# Altium integrated library FPGA Memories.IntLib: 600 symbols (part 2 of 6)
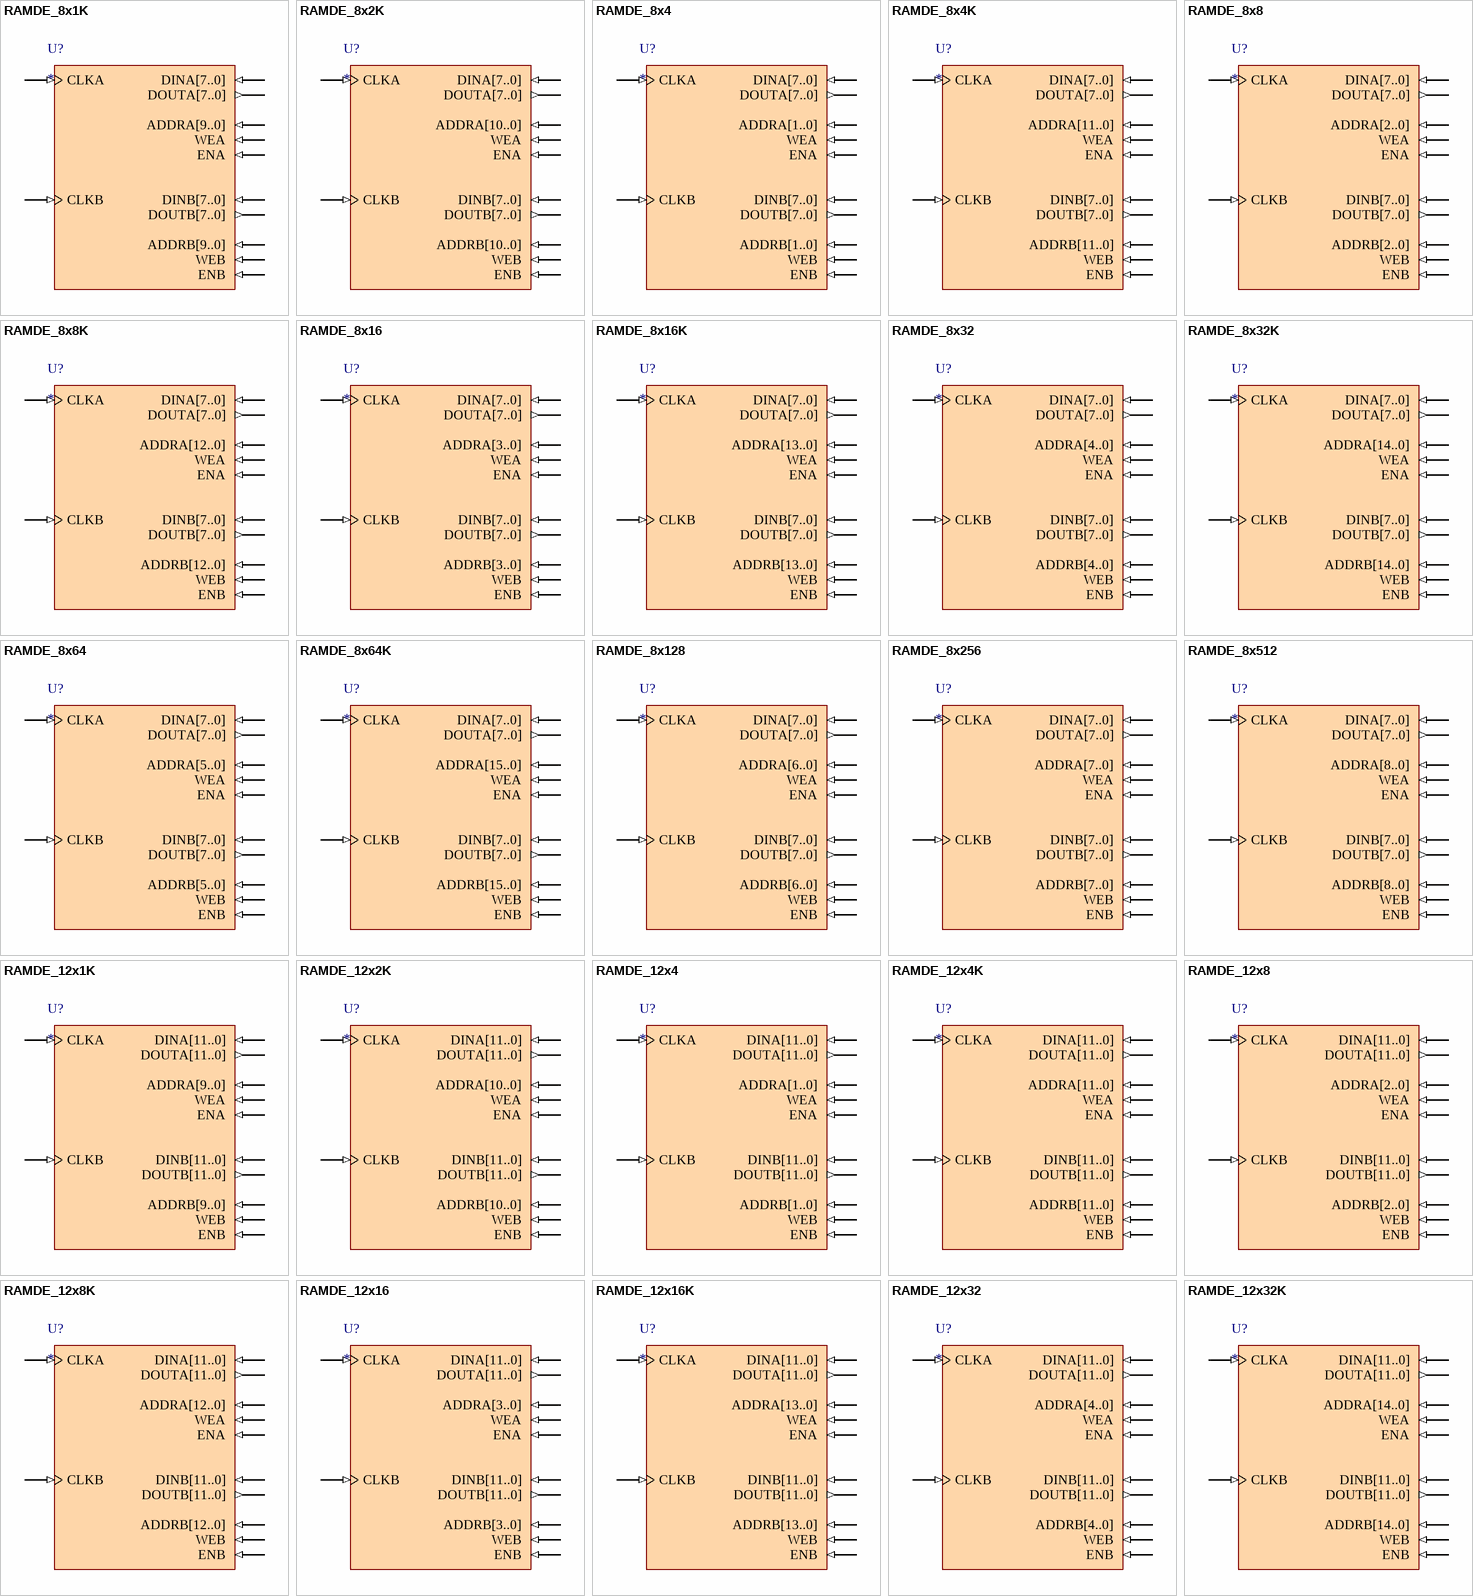
[diagram p21: symbols RAMDE_8x1K to RAMDE_12x32K]

## RAMDE_8x32
designator U?
Dual Port RAM, Enable; Memory_DepthA: 32; Memory_Type: RAM_DualPortBlock; Memory_WidthA: 8; Memory_ClockEdge: Rising; Nexus_Core: Memory_Program; Memory_EnablePin: True; Memory_ByteWrites: False; Published: 11/10/2004; Publisher: Altium Hobart Technology Center; Memory_DepthB: 32; Memory_WidthB: 8
pins: ADDRA[4..0] (in), ADDRB[4..0] (in), CLKA (in), CLKB (in), DINA[7..0] (in), DINB[7..0] (in), DOUTA[7..0] (out), DOUTB[7..0] (out), ENA (in), ENB (in), WEA (in), WEB (in)

## RAMDE_8x32K
designator U?
Dual Port RAM, Enable; Memory_DepthA: 32768; Memory_Type: RAM_DualPortBlock; Memory_WidthA: 8; Memory_ClockEdge: Rising; Nexus_Core: Memory_Program; Memory_EnablePin: True; Memory_ByteWrites: False; Published: 11/10/2004; Publisher: Altium Hobart Technology Center; Memory_DepthB: 32768; Memory_WidthB: 8
pins: ADDRA[14..0] (in), ADDRB[14..0] (in), CLKA (in), CLKB (in), DINA[7..0] (in), DINB[7..0] (in), DOUTA[7..0] (out), DOUTB[7..0] (out), ENA (in), ENB (in), WEA (in), WEB (in)

## RAMDE_8x64
designator U?
Dual Port RAM, Enable; Memory_DepthA: 64; Memory_Type: RAM_DualPortBlock; Memory_WidthA: 8; Memory_ClockEdge: Rising; Nexus_Core: Memory_Program; Memory_EnablePin: True; Memory_ByteWrites: False; Published: 11/10/2004; Publisher: Altium Hobart Technology Center; Memory_DepthB: 64; Memory_WidthB: 8
pins: ADDRA[5..0] (in), ADDRB[5..0] (in), CLKA (in), CLKB (in), DINA[7..0] (in), DINB[7..0] (in), DOUTA[7..0] (out), DOUTB[7..0] (out), ENA (in), ENB (in), WEA (in), WEB (in)

## RAMDE_8x64K
designator U?
Dual Port RAM, Enable; Memory_DepthA: 65536; Memory_Type: RAM_DualPortBlock; Memory_WidthA: 8; Memory_ClockEdge: Rising; Nexus_Core: Memory_Program; Memory_EnablePin: True; Memory_ByteWrites: False; Published: 11/10/2004; Publisher: Altium Hobart Technology Center; Memory_DepthB: 65536; Memory_WidthB: 8
pins: ADDRA[15..0] (in), ADDRB[15..0] (in), CLKA (in), CLKB (in), DINA[7..0] (in), DINB[7..0] (in), DOUTA[7..0] (out), DOUTB[7..0] (out), ENA (in), ENB (in), WEA (in), WEB (in)

## RAMDE_8x128
designator U?
Dual Port RAM, Enable; Memory_DepthA: 128; Memory_Type: RAM_DualPortBlock; Memory_WidthA: 8; Memory_ClockEdge: Rising; Nexus_Core: Memory_Program; Memory_EnablePin: True; Memory_ByteWrites: False; Published: 11/10/2004; Publisher: Altium Hobart Technology Center; Memory_DepthB: 128; Memory_WidthB: 8
pins: ADDRA[6..0] (in), ADDRB[6..0] (in), CLKA (in), CLKB (in), DINA[7..0] (in), DINB[7..0] (in), DOUTA[7..0] (out), DOUTB[7..0] (out), ENA (in), ENB (in), WEA (in), WEB (in)

## RAMDE_8x256
designator U?
Dual Port RAM, Enable; Memory_DepthA: 256; Memory_Type: RAM_DualPortBlock; Memory_WidthA: 8; Memory_ClockEdge: Rising; Nexus_Core: Memory_Program; Memory_EnablePin: True; Memory_ByteWrites: False; Published: 11/10/2004; Publisher: Altium Hobart Technology Center; Memory_DepthB: 256; Memory_WidthB: 8
pins: ADDRA[7..0] (in), ADDRB[7..0] (in), CLKA (in), CLKB (in), DINA[7..0] (in), DINB[7..0] (in), DOUTA[7..0] (out), DOUTB[7..0] (out), ENA (in), ENB (in), WEA (in), WEB (in)

## RAMDE_8x512
designator U?
Dual Port RAM, Enable; Memory_DepthA: 512; Memory_Type: RAM_DualPortBlock; Memory_WidthA: 8; Memory_ClockEdge: Rising; Nexus_Core: Memory_Program; Memory_EnablePin: True; Memory_ByteWrites: False; Published: 11/10/2004; Publisher: Altium Hobart Technology Center; Memory_DepthB: 512; Memory_WidthB: 8
pins: ADDRA[8..0] (in), ADDRB[8..0] (in), CLKA (in), CLKB (in), DINA[7..0] (in), DINB[7..0] (in), DOUTA[7..0] (out), DOUTB[7..0] (out), ENA (in), ENB (in), WEA (in), WEB (in)

## RAMDE_12x1K
designator U?
Dual Port RAM, Enable; Memory_DepthA: 1024; Memory_Type: RAM_DualPortBlock; Memory_WidthA: 12; Memory_ClockEdge: Rising; Nexus_Core: Memory_Program; Memory_EnablePin: True; Memory_ByteWrites: False; Published: 11/10/2004; Publisher: Altium Hobart Technology Center; Memory_DepthB: 1024; Memory_WidthB: 12
pins: ADDRA[9..0] (in), ADDRB[9..0] (in), CLKA (in), CLKB (in), DINA[11..0] (in), DINB[11..0] (in), DOUTA[11..0] (out), DOUTB[11..0] (out), ENA (in), ENB (in), WEA (in), WEB (in)

## RAMDE_12x2K
designator U?
Dual Port RAM, Enable; Memory_DepthA: 2048; Memory_Type: RAM_DualPortBlock; Memory_WidthA: 12; Memory_ClockEdge: Rising; Nexus_Core: Memory_Program; Memory_EnablePin: True; Memory_ByteWrites: False; Published: 11/10/2004; Publisher: Altium Hobart Technology Center; Memory_DepthB: 2048; Memory_WidthB: 12
pins: ADDRA[10..0] (in), ADDRB[10..0] (in), CLKA (in), CLKB (in), DINA[11..0] (in), DINB[11..0] (in), DOUTA[11..0] (out), DOUTB[11..0] (out), ENA (in), ENB (in), WEA (in), WEB (in)

## RAMDE_12x4
designator U?
Dual Port RAM, Enable; Memory_DepthA: 4; Memory_Type: RAM_DualPortBlock; Memory_WidthA: 12; Memory_ClockEdge: Rising; Nexus_Core: Memory_Program; Memory_EnablePin: True; Memory_ByteWrites: False; Published: 11/10/2004; Publisher: Altium Hobart Technology Center; Memory_DepthB: 4; Memory_WidthB: 12
pins: ADDRA[1..0] (in), ADDRB[1..0] (in), CLKA (in), CLKB (in), DINA[11..0] (in), DINB[11..0] (in), DOUTA[11..0] (out), DOUTB[11..0] (out), ENA (in), ENB (in), WEA (in), WEB (in)

## RAMDE_12x4K
designator U?
Dual Port RAM, Enable; Memory_DepthA: 4096; Memory_Type: RAM_DualPortBlock; Memory_WidthA: 12; Memory_ClockEdge: Rising; Nexus_Core: Memory_Program; Memory_EnablePin: True; Memory_ByteWrites: False; Published: 11/10/2004; Publisher: Altium Hobart Technology Center; Memory_DepthB: 4096; Memory_WidthB: 12
pins: ADDRA[11..0] (in), ADDRB[11..0] (in), CLKA (in), CLKB (in), DINA[11..0] (in), DINB[11..0] (in), DOUTA[11..0] (out), DOUTB[11..0] (out), ENA (in), ENB (in), WEA (in), WEB (in)

## RAMDE_12x8
designator U?
Dual Port RAM, Enable; Memory_DepthA: 8; Memory_Type: RAM_DualPortBlock; Memory_WidthA: 12; Memory_ClockEdge: Rising; Nexus_Core: Memory_Program; Memory_EnablePin: True; Memory_ByteWrites: False; Published: 11/10/2004; Publisher: Altium Hobart Technology Center; Memory_DepthB: 8; Memory_WidthB: 12
pins: ADDRA[2..0] (in), ADDRB[2..0] (in), CLKA (in), CLKB (in), DINA[11..0] (in), DINB[11..0] (in), DOUTA[11..0] (out), DOUTB[11..0] (out), ENA (in), ENB (in), WEA (in), WEB (in)

## RAMDE_12x8K
designator U?
Dual Port RAM, Enable; Memory_DepthA: 8192; Memory_Type: RAM_DualPortBlock; Memory_WidthA: 12; Memory_ClockEdge: Rising; Nexus_Core: Memory_Program; Memory_EnablePin: True; Memory_ByteWrites: False; Published: 11/10/2004; Publisher: Altium Hobart Technology Center; Memory_DepthB: 8192; Memory_WidthB: 12
pins: ADDRA[12..0] (in), ADDRB[12..0] (in), CLKA (in), CLKB (in), DINA[11..0] (in), DINB[11..0] (in), DOUTA[11..0] (out), DOUTB[11..0] (out), ENA (in), ENB (in), WEA (in), WEB (in)

## RAMDE_12x16
designator U?
Dual Port RAM, Enable; Memory_DepthA: 16; Memory_Type: RAM_DualPortBlock; Memory_WidthA: 12; Memory_ClockEdge: Rising; Nexus_Core: Memory_Program; Memory_EnablePin: True; Memory_ByteWrites: False; Published: 11/10/2004; Publisher: Altium Hobart Technology Center; Memory_DepthB: 16; Memory_WidthB: 12
pins: ADDRA[3..0] (in), ADDRB[3..0] (in), CLKA (in), CLKB (in), DINA[11..0] (in), DINB[11..0] (in), DOUTA[11..0] (out), DOUTB[11..0] (out), ENA (in), ENB (in), WEA (in), WEB (in)

## RAMDE_12x16K
designator U?
Dual Port RAM, Enable; Memory_DepthA: 16384; Memory_Type: RAM_DualPortBlock; Memory_WidthA: 12; Memory_ClockEdge: Rising; Nexus_Core: Memory_Program; Memory_EnablePin: True; Memory_ByteWrites: False; Published: 11/10/2004; Publisher: Altium Hobart Technology Center; Memory_DepthB: 16384; Memory_WidthB: 12
pins: ADDRA[13..0] (in), ADDRB[13..0] (in), CLKA (in), CLKB (in), DINA[11..0] (in), DINB[11..0] (in), DOUTA[11..0] (out), DOUTB[11..0] (out), ENA (in), ENB (in), WEA (in), WEB (in)

## RAMDE_12x32
designator U?
Dual Port RAM, Enable; Memory_DepthA: 32; Memory_Type: RAM_DualPortBlock; Memory_WidthA: 12; Memory_ClockEdge: Rising; Nexus_Core: Memory_Program; Memory_EnablePin: True; Memory_ByteWrites: False; Published: 11/10/2004; Publisher: Altium Hobart Technology Center; Memory_DepthB: 32; Memory_WidthB: 12
pins: ADDRA[4..0] (in), ADDRB[4..0] (in), CLKA (in), CLKB (in), DINA[11..0] (in), DINB[11..0] (in), DOUTA[11..0] (out), DOUTB[11..0] (out), ENA (in), ENB (in), WEA (in), WEB (in)

## RAMDE_12x32K
designator U?
Dual Port RAM, Enable; Memory_DepthA: 32768; Memory_Type: RAM_DualPortBlock; Memory_WidthA: 12; Memory_ClockEdge: Rising; Nexus_Core: Memory_Program; Memory_EnablePin: True; Memory_ByteWrites: False; Published: 11/10/2004; Publisher: Altium Hobart Technology Center; Memory_DepthB: 32768; Memory_WidthB: 12
pins: ADDRA[14..0] (in), ADDRB[14..0] (in), CLKA (in), CLKB (in), DINA[11..0] (in), DINB[11..0] (in), DOUTA[11..0] (out), DOUTB[11..0] (out), ENA (in), ENB (in), WEA (in), WEB (in)

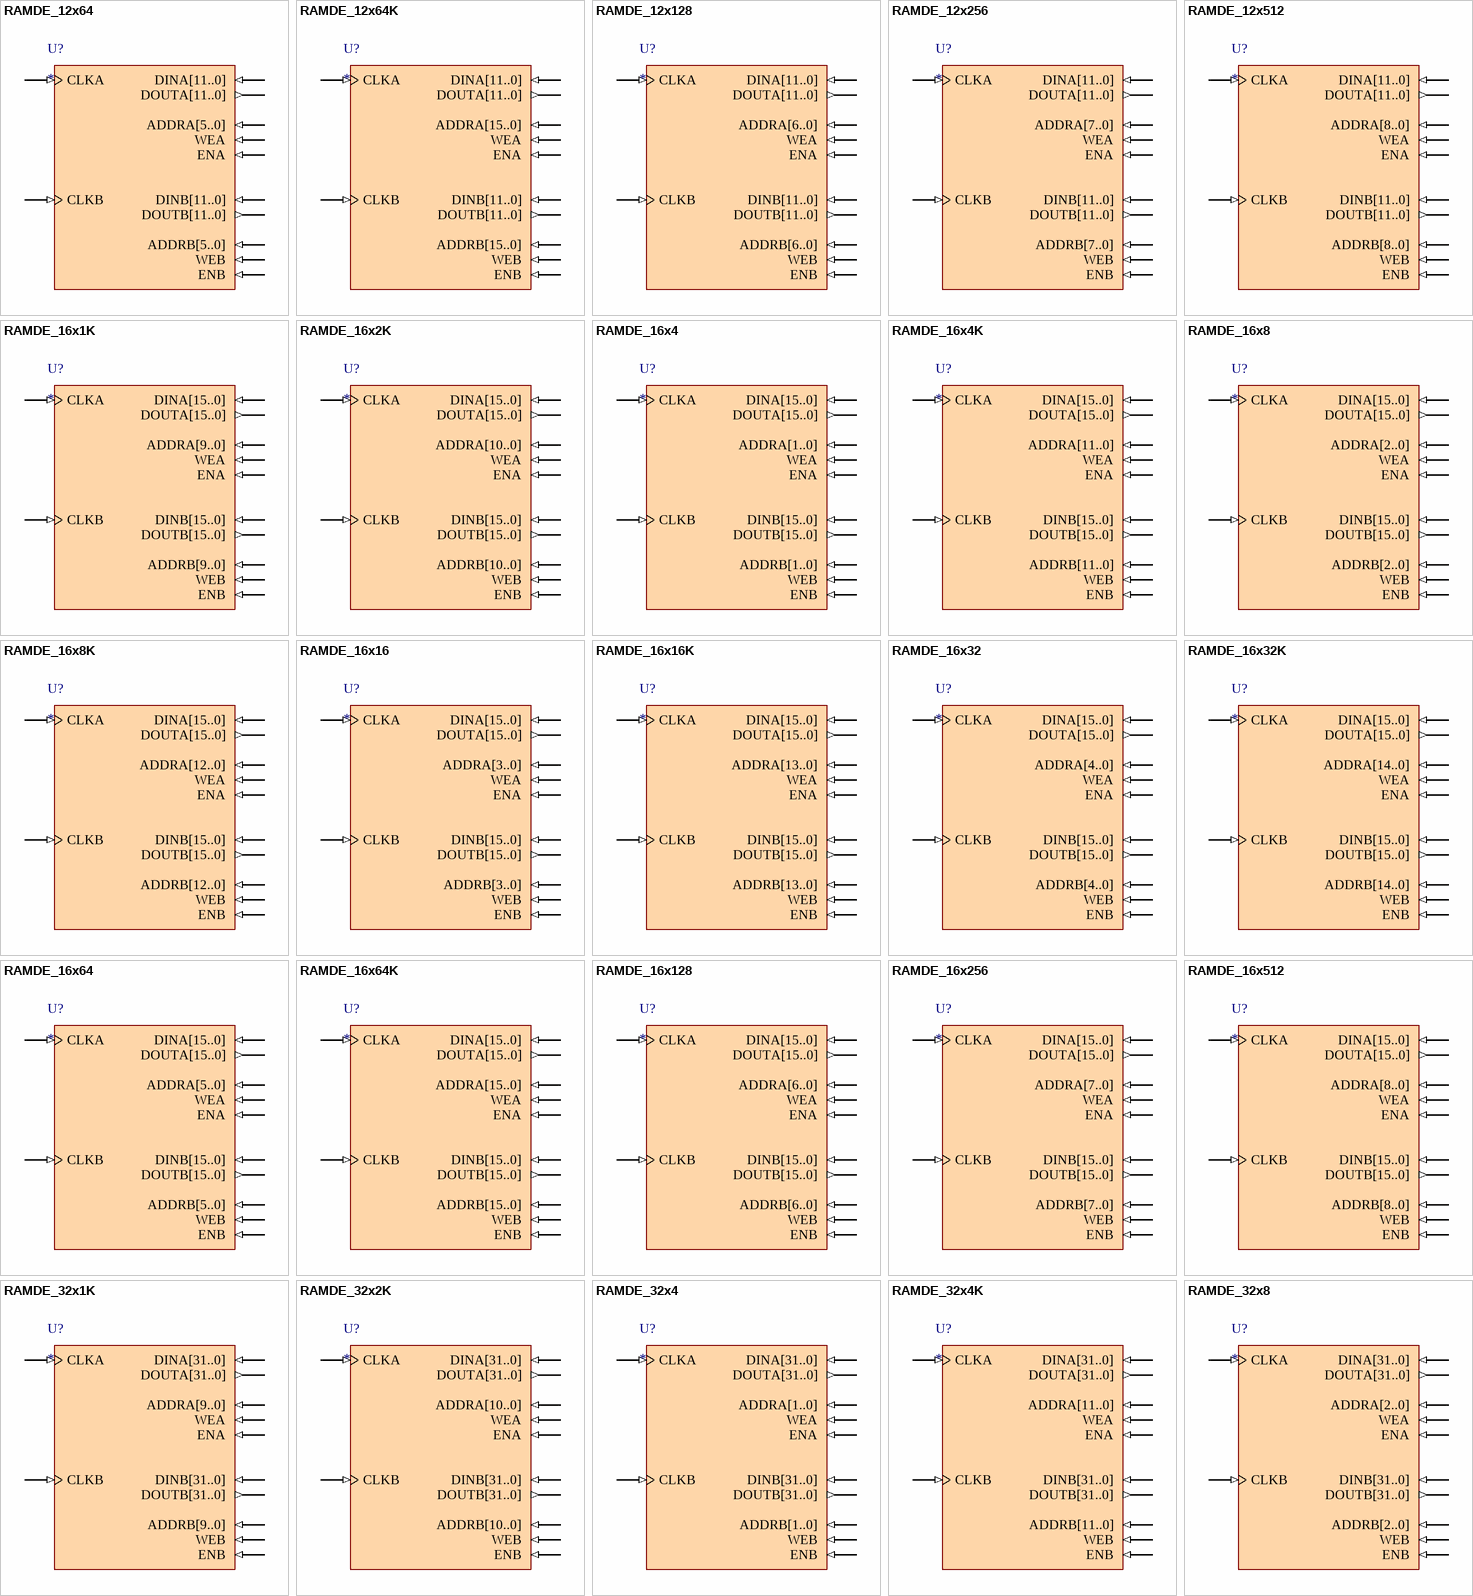
[diagram p5: symbols RAMDE_12x64 to RAMDE_32x8]

## RAMDE_12x64
designator U?
Dual Port RAM, Enable; Memory_DepthA: 64; Memory_Type: RAM_DualPortBlock; Memory_WidthA: 12; Memory_ClockEdge: Rising; Nexus_Core: Memory_Program; Memory_EnablePin: True; Memory_ByteWrites: False; Published: 11/10/2004; Publisher: Altium Hobart Technology Center; Memory_DepthB: 64; Memory_WidthB: 12
pins: ADDRA[5..0] (in), ADDRB[5..0] (in), CLKA (in), CLKB (in), DINA[11..0] (in), DINB[11..0] (in), DOUTA[11..0] (out), DOUTB[11..0] (out), ENA (in), ENB (in), WEA (in), WEB (in)

## RAMDE_12x64K
designator U?
Dual Port RAM, Enable; Memory_DepthA: 65536; Memory_Type: RAM_DualPortBlock; Memory_WidthA: 12; Memory_ClockEdge: Rising; Nexus_Core: Memory_Program; Memory_EnablePin: True; Memory_ByteWrites: False; Published: 11/10/2004; Publisher: Altium Hobart Technology Center; Memory_DepthB: 65536; Memory_WidthB: 12
pins: ADDRA[15..0] (in), ADDRB[15..0] (in), CLKA (in), CLKB (in), DINA[11..0] (in), DINB[11..0] (in), DOUTA[11..0] (out), DOUTB[11..0] (out), ENA (in), ENB (in), WEA (in), WEB (in)

## RAMDE_12x128
designator U?
Dual Port RAM, Enable; Memory_DepthA: 128; Memory_Type: RAM_DualPortBlock; Memory_WidthA: 12; Memory_ClockEdge: Rising; Nexus_Core: Memory_Program; Memory_EnablePin: True; Memory_ByteWrites: False; Published: 11/10/2004; Publisher: Altium Hobart Technology Center; Memory_DepthB: 128; Memory_WidthB: 12
pins: ADDRA[6..0] (in), ADDRB[6..0] (in), CLKA (in), CLKB (in), DINA[11..0] (in), DINB[11..0] (in), DOUTA[11..0] (out), DOUTB[11..0] (out), ENA (in), ENB (in), WEA (in), WEB (in)

## RAMDE_12x256
designator U?
Dual Port RAM, Enable; Memory_DepthA: 256; Memory_Type: RAM_DualPortBlock; Memory_WidthA: 12; Memory_ClockEdge: Rising; Nexus_Core: Memory_Program; Memory_EnablePin: True; Memory_ByteWrites: False; Published: 11/10/2004; Publisher: Altium Hobart Technology Center; Memory_DepthB: 256; Memory_WidthB: 12
pins: ADDRA[7..0] (in), ADDRB[7..0] (in), CLKA (in), CLKB (in), DINA[11..0] (in), DINB[11..0] (in), DOUTA[11..0] (out), DOUTB[11..0] (out), ENA (in), ENB (in), WEA (in), WEB (in)

## RAMDE_12x512
designator U?
Dual Port RAM, Enable; Memory_DepthA: 512; Memory_Type: RAM_DualPortBlock; Memory_WidthA: 12; Memory_ClockEdge: Rising; Nexus_Core: Memory_Program; Memory_EnablePin: True; Memory_ByteWrites: False; Published: 11/10/2004; Publisher: Altium Hobart Technology Center; Memory_DepthB: 512; Memory_WidthB: 12
pins: ADDRA[8..0] (in), ADDRB[8..0] (in), CLKA (in), CLKB (in), DINA[11..0] (in), DINB[11..0] (in), DOUTA[11..0] (out), DOUTB[11..0] (out), ENA (in), ENB (in), WEA (in), WEB (in)

## RAMDE_16x1K
designator U?
Dual Port RAM, Enable; Memory_DepthA: 1024; Memory_Type: RAM_DualPortBlock; Memory_WidthA: 16; Memory_ClockEdge: Rising; Nexus_Core: Memory_Program; Memory_EnablePin: True; Memory_ByteWrites: False; Published: 11/10/2004; Publisher: Altium Hobart Technology Center; Memory_DepthB: 1024; Memory_WidthB: 16
pins: ADDRA[9..0] (in), ADDRB[9..0] (in), CLKA (in), CLKB (in), DINA[15..0] (in), DINB[15..0] (in), DOUTA[15..0] (out), DOUTB[15..0] (out), ENA (in), ENB (in), WEA (in), WEB (in)

## RAMDE_16x2K
designator U?
Dual Port RAM, Enable; Memory_DepthA: 2048; Memory_Type: RAM_DualPortBlock; Memory_WidthA: 16; Memory_ClockEdge: Rising; Nexus_Core: Memory_Program; Memory_EnablePin: True; Memory_ByteWrites: False; Published: 11/10/2004; Publisher: Altium Hobart Technology Center; Memory_DepthB: 2048; Memory_WidthB: 16
pins: ADDRA[10..0] (in), ADDRB[10..0] (in), CLKA (in), CLKB (in), DINA[15..0] (in), DINB[15..0] (in), DOUTA[15..0] (out), DOUTB[15..0] (out), ENA (in), ENB (in), WEA (in), WEB (in)

## RAMDE_16x4
designator U?
Dual Port RAM, Enable; Memory_DepthA: 4; Memory_Type: RAM_DualPortBlock; Memory_WidthA: 16; Memory_ClockEdge: Rising; Nexus_Core: Memory_Program; Memory_EnablePin: True; Memory_ByteWrites: False; Published: 11/10/2004; Publisher: Altium Hobart Technology Center; Memory_DepthB: 4; Memory_WidthB: 16
pins: ADDRA[1..0] (in), ADDRB[1..0] (in), CLKA (in), CLKB (in), DINA[15..0] (in), DINB[15..0] (in), DOUTA[15..0] (out), DOUTB[15..0] (out), ENA (in), ENB (in), WEA (in), WEB (in)

## RAMDE_16x4K
designator U?
Dual Port RAM, Enable; Memory_DepthA: 4096; Memory_Type: RAM_DualPortBlock; Memory_WidthA: 16; Memory_ClockEdge: Rising; Nexus_Core: Memory_Program; Memory_EnablePin: True; Memory_ByteWrites: False; Published: 11/10/2004; Publisher: Altium Hobart Technology Center; Memory_DepthB: 4096; Memory_WidthB: 16
pins: ADDRA[11..0] (in), ADDRB[11..0] (in), CLKA (in), CLKB (in), DINA[15..0] (in), DINB[15..0] (in), DOUTA[15..0] (out), DOUTB[15..0] (out), ENA (in), ENB (in), WEA (in), WEB (in)

## RAMDE_16x8
designator U?
Dual Port RAM, Enable; Memory_DepthA: 8; Memory_Type: RAM_DualPortBlock; Memory_WidthA: 16; Memory_ClockEdge: Rising; Nexus_Core: Memory_Program; Memory_EnablePin: True; Memory_ByteWrites: False; Published: 11/10/2004; Publisher: Altium Hobart Technology Center; Memory_DepthB: 8; Memory_WidthB: 16
pins: ADDRA[2..0] (in), ADDRB[2..0] (in), CLKA (in), CLKB (in), DINA[15..0] (in), DINB[15..0] (in), DOUTA[15..0] (out), DOUTB[15..0] (out), ENA (in), ENB (in), WEA (in), WEB (in)

## RAMDE_16x8K
designator U?
Dual Port RAM, Enable; Memory_DepthA: 8192; Memory_Type: RAM_DualPortBlock; Memory_WidthA: 16; Memory_ClockEdge: Rising; Nexus_Core: Memory_Program; Memory_EnablePin: True; Memory_ByteWrites: False; Published: 11/10/2004; Publisher: Altium Hobart Technology Center; Memory_DepthB: 8192; Memory_WidthB: 16
pins: ADDRA[12..0] (in), ADDRB[12..0] (in), CLKA (in), CLKB (in), DINA[15..0] (in), DINB[15..0] (in), DOUTA[15..0] (out), DOUTB[15..0] (out), ENA (in), ENB (in), WEA (in), WEB (in)

## RAMDE_16x16
designator U?
Dual Port RAM, Enable; Memory_DepthA: 16; Memory_Type: RAM_DualPortBlock; Memory_ClockEdge: Rising; Nexus_Core: Memory_Program; Memory_EnablePin: True; Memory_ByteWrites: False; Published: 11/10/2004; Publisher: Altium Hobart Technology Center; Memory_DepthB: 16; Memory_WidthA: 16; Memory_WidthB: 16
pins: ADDRA[3..0] (in), ADDRB[3..0] (in), CLKA (in), CLKB (in), DINA[15..0] (in), DINB[15..0] (in), DOUTA[15..0] (out), DOUTB[15..0] (out), ENA (in), ENB (in), WEA (in), WEB (in)

## RAMDE_16x16K
designator U?
Dual Port RAM, Enable; Memory_DepthA: 16384; Memory_Type: RAM_DualPortBlock; Memory_WidthA: 16; Memory_ClockEdge: Rising; Nexus_Core: Memory_Program; Memory_EnablePin: True; Memory_ByteWrites: False; Published: 11/10/2004; Publisher: Altium Hobart Technology Center; Memory_DepthB: 16384; Memory_WidthB: 16
pins: ADDRA[13..0] (in), ADDRB[13..0] (in), CLKA (in), CLKB (in), DINA[15..0] (in), DINB[15..0] (in), DOUTA[15..0] (out), DOUTB[15..0] (out), ENA (in), ENB (in), WEA (in), WEB (in)

## RAMDE_16x32
designator U?
Dual Port RAM, Enable; Memory_DepthA: 32; Memory_Type: RAM_DualPortBlock; Memory_WidthA: 16; Memory_ClockEdge: Rising; Nexus_Core: Memory_Program; Memory_EnablePin: True; Memory_ByteWrites: False; Published: 11/10/2004; Publisher: Altium Hobart Technology Center; Memory_DepthB: 32; Memory_WidthB: 16
pins: ADDRA[4..0] (in), ADDRB[4..0] (in), CLKA (in), CLKB (in), DINA[15..0] (in), DINB[15..0] (in), DOUTA[15..0] (out), DOUTB[15..0] (out), ENA (in), ENB (in), WEA (in), WEB (in)

## RAMDE_16x32K
designator U?
Dual Port RAM, Enable; Memory_DepthA: 32768; Memory_Type: RAM_DualPortBlock; Memory_WidthA: 16; Memory_ClockEdge: Rising; Nexus_Core: Memory_Program; Memory_EnablePin: True; Memory_ByteWrites: False; Published: 11/10/2004; Publisher: Altium Hobart Technology Center; Memory_DepthB: 32768; Memory_WidthB: 16
pins: ADDRA[14..0] (in), ADDRB[14..0] (in), CLKA (in), CLKB (in), DINA[15..0] (in), DINB[15..0] (in), DOUTA[15..0] (out), DOUTB[15..0] (out), ENA (in), ENB (in), WEA (in), WEB (in)

## RAMDE_16x64
designator U?
Dual Port RAM, Enable; Memory_DepthA: 64; Memory_Type: RAM_DualPortBlock; Memory_WidthA: 16; Memory_ClockEdge: Rising; Nexus_Core: Memory_Program; Memory_EnablePin: True; Memory_ByteWrites: False; Published: 11/10/2004; Publisher: Altium Hobart Technology Center; Memory_DepthB: 64; Memory_WidthB: 16
pins: ADDRA[5..0] (in), ADDRB[5..0] (in), CLKA (in), CLKB (in), DINA[15..0] (in), DINB[15..0] (in), DOUTA[15..0] (out), DOUTB[15..0] (out), ENA (in), ENB (in), WEA (in), WEB (in)

## RAMDE_16x64K
designator U?
Dual Port RAM, Enable; Memory_DepthA: 65536; Memory_Type: RAM_DualPortBlock; Memory_WidthA: 16; Memory_ClockEdge: Rising; Nexus_Core: Memory_Program; Memory_EnablePin: True; Memory_ByteWrites: False; Published: 11/10/2004; Publisher: Altium Hobart Technology Center; Memory_DepthB: 65536; Memory_WidthB: 16
pins: ADDRA[15..0] (in), ADDRB[15..0] (in), CLKA (in), CLKB (in), DINA[15..0] (in), DINB[15..0] (in), DOUTA[15..0] (out), DOUTB[15..0] (out), ENA (in), ENB (in), WEA (in), WEB (in)

## RAMDE_16x128
designator U?
Dual Port RAM, Enable; Memory_DepthA: 128; Memory_Type: RAM_DualPortBlock; Memory_WidthA: 16; Memory_ClockEdge: Rising; Nexus_Core: Memory_Program; Memory_EnablePin: True; Memory_ByteWrites: False; Published: 11/10/2004; Publisher: Altium Hobart Technology Center; Memory_DepthB: 128; Memory_WidthB: 16
pins: ADDRA[6..0] (in), ADDRB[6..0] (in), CLKA (in), CLKB (in), DINA[15..0] (in), DINB[15..0] (in), DOUTA[15..0] (out), DOUTB[15..0] (out), ENA (in), ENB (in), WEA (in), WEB (in)

## RAMDE_16x256
designator U?
Dual Port RAM, Enable; Memory_DepthA: 256; Memory_Type: RAM_DualPortBlock; Memory_WidthA: 16; Memory_ClockEdge: Rising; Nexus_Core: Memory_Program; Memory_EnablePin: True; Memory_ByteWrites: False; Published: 11/10/2004; Publisher: Altium Hobart Technology Center; Memory_DepthB: 256; Memory_WidthB: 16
pins: ADDRA[7..0] (in), ADDRB[7..0] (in), CLKA (in), CLKB (in), DINA[15..0] (in), DINB[15..0] (in), DOUTA[15..0] (out), DOUTB[15..0] (out), ENA (in), ENB (in), WEA (in), WEB (in)

## RAMDE_16x512
designator U?
Dual Port RAM, Enable; Memory_DepthA: 512; Memory_Type: RAM_DualPortBlock; Memory_WidthA: 16; Memory_ClockEdge: Rising; Nexus_Core: Memory_Program; Memory_EnablePin: True; Memory_ByteWrites: False; Published: 11/10/2004; Publisher: Altium Hobart Technology Center; Memory_DepthB: 512; Memory_WidthB: 16
pins: ADDRA[8..0] (in), ADDRB[8..0] (in), CLKA (in), CLKB (in), DINA[15..0] (in), DINB[15..0] (in), DOUTA[15..0] (out), DOUTB[15..0] (out), ENA (in), ENB (in), WEA (in), WEB (in)

## RAMDE_32x1K
designator U?
Dual Port RAM, Enable; Memory_DepthA: 1024; Memory_Type: RAM_DualPortBlock; Memory_WidthA: 32; Memory_ClockEdge: Rising; Nexus_Core: Memory_Program; Memory_EnablePin: True; Memory_ByteWrites: False; Published: 11/10/2004; Publisher: Altium Hobart Technology Center; Memory_DepthB: 1024; Memory_WidthB: 32
pins: ADDRA[9..0] (in), ADDRB[9..0] (in), CLKA (in), CLKB (in), DINA[31..0] (in), DINB[31..0] (in), DOUTA[31..0] (out), DOUTB[31..0] (out), ENA (in), ENB (in), WEA (in), WEB (in)

## RAMDE_32x2K
designator U?
Dual Port RAM, Enable; Memory_DepthA: 2048; Memory_Type: RAM_DualPortBlock; Memory_WidthA: 32; Memory_ClockEdge: Rising; Nexus_Core: Memory_Program; Memory_EnablePin: True; Memory_ByteWrites: False; Published: 11/10/2004; Publisher: Altium Hobart Technology Center; Memory_DepthB: 2048; Memory_WidthB: 32
pins: ADDRA[10..0] (in), ADDRB[10..0] (in), CLKA (in), CLKB (in), DINA[31..0] (in), DINB[31..0] (in), DOUTA[31..0] (out), DOUTB[31..0] (out), ENA (in), ENB (in), WEA (in), WEB (in)

## RAMDE_32x4
designator U?
Dual Port RAM, Enable; Memory_DepthA: 4; Memory_Type: RAM_DualPortBlock; Memory_WidthA: 32; Memory_ClockEdge: Rising; Nexus_Core: Memory_Program; Memory_EnablePin: True; Memory_ByteWrites: False; Published: 11/10/2004; Publisher: Altium Hobart Technology Center; Memory_DepthB: 4; Memory_WidthB: 32
pins: ADDRA[1..0] (in), ADDRB[1..0] (in), CLKA (in), CLKB (in), DINA[31..0] (in), DINB[31..0] (in), DOUTA[31..0] (out), DOUTB[31..0] (out), ENA (in), ENB (in), WEA (in), WEB (in)

## RAMDE_32x4K
designator U?
Dual Port RAM, Enable; Memory_DepthA: 4096; Memory_Type: RAM_DualPortBlock; Memory_WidthA: 32; Memory_ClockEdge: Rising; Nexus_Core: Memory_Program; Memory_EnablePin: True; Memory_ByteWrites: False; Published: 11/10/2004; Publisher: Altium Hobart Technology Center; Memory_DepthB: 4096; Memory_WidthB: 32
pins: ADDRA[11..0] (in), ADDRB[11..0] (in), CLKA (in), CLKB (in), DINA[31..0] (in), DINB[31..0] (in), DOUTA[31..0] (out), DOUTB[31..0] (out), ENA (in), ENB (in), WEA (in), WEB (in)

## RAMDE_32x8
designator U?
Dual Port RAM, Enable; Memory_DepthA: 8; Memory_Type: RAM_DualPortBlock; Memory_WidthA: 32; Memory_ClockEdge: Rising; Nexus_Core: Memory_Program; Memory_EnablePin: True; Memory_ByteWrites: False; Published: 11/10/2004; Publisher: Altium Hobart Technology Center; Memory_DepthB: 8; Memory_WidthB: 32
pins: ADDRA[2..0] (in), ADDRB[2..0] (in), CLKA (in), CLKB (in), DINA[31..0] (in), DINB[31..0] (in), DOUTA[31..0] (out), DOUTB[31..0] (out), ENA (in), ENB (in), WEA (in), WEB (in)

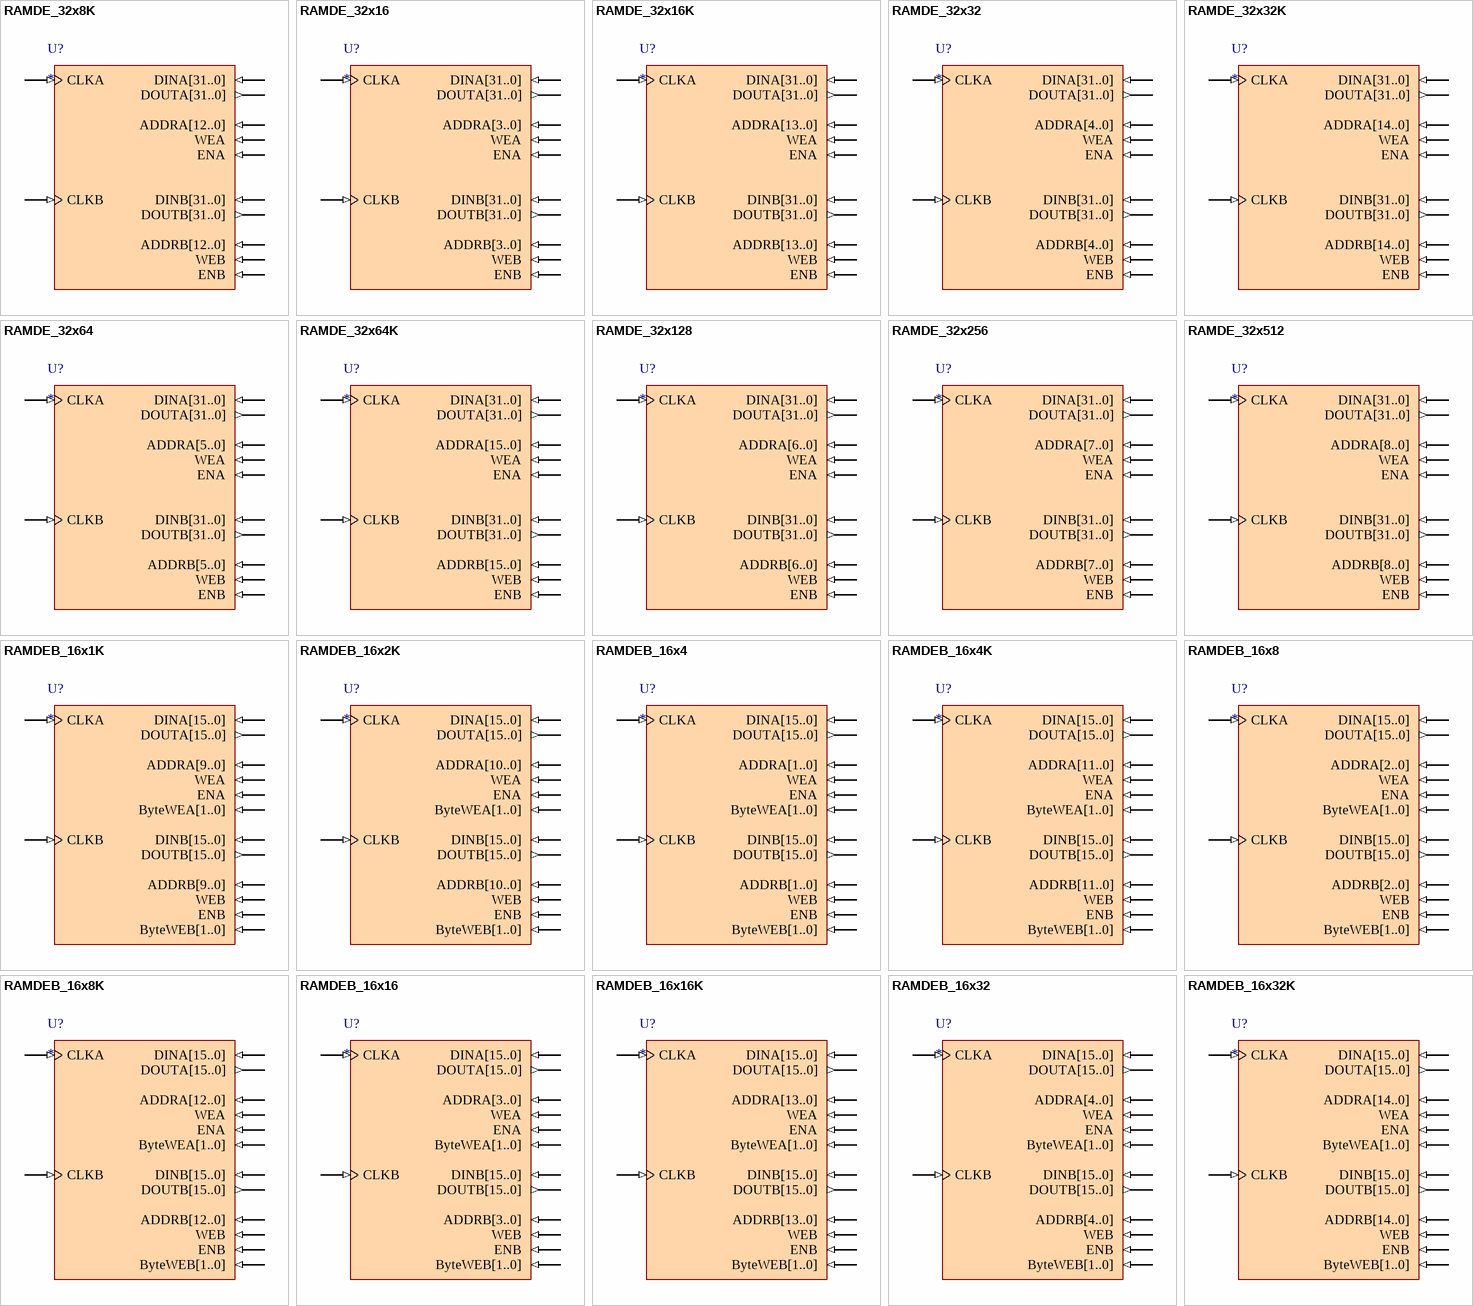
[diagram p6: symbols RAMDE_32x8K to RAMDEB_16x32K]

## RAMDE_32x8K
designator U?
Dual Port RAM, Enable; Memory_DepthA: 8192; Memory_Type: RAM_DualPortBlock; Memory_WidthA: 32; Memory_ClockEdge: Rising; Nexus_Core: Memory_Program; Memory_EnablePin: True; Memory_ByteWrites: False; Published: 11/10/2004; Publisher: Altium Hobart Technology Center; Memory_DepthB: 8192; Memory_WidthB: 32
pins: ADDRA[12..0] (in), ADDRB[12..0] (in), CLKA (in), CLKB (in), DINA[31..0] (in), DINB[31..0] (in), DOUTA[31..0] (out), DOUTB[31..0] (out), ENA (in), ENB (in), WEA (in), WEB (in)

## RAMDE_32x16
designator U?
Dual Port RAM, Enable; Memory_DepthA: 16; Memory_Type: RAM_DualPortBlock; Memory_WidthA: 32; Memory_ClockEdge: Rising; Nexus_Core: Memory_Program; Memory_EnablePin: True; Memory_ByteWrites: False; Published: 11/10/2004; Publisher: Altium Hobart Technology Center; Memory_DepthB: 16; Memory_WidthB: 32
pins: ADDRA[3..0] (in), ADDRB[3..0] (in), CLKA (in), CLKB (in), DINA[31..0] (in), DINB[31..0] (in), DOUTA[31..0] (out), DOUTB[31..0] (out), ENA (in), ENB (in), WEA (in), WEB (in)

## RAMDE_32x16K
designator U?
Dual Port RAM, Enable; Memory_DepthA: 16384; Memory_Type: RAM_DualPortBlock; Memory_WidthA: 32; Memory_ClockEdge: Rising; Nexus_Core: Memory_Program; Memory_EnablePin: True; Memory_ByteWrites: False; Published: 11/10/2004; Publisher: Altium Hobart Technology Center; Memory_DepthB: 16384; Memory_WidthB: 32
pins: ADDRA[13..0] (in), ADDRB[13..0] (in), CLKA (in), CLKB (in), DINA[31..0] (in), DINB[31..0] (in), DOUTA[31..0] (out), DOUTB[31..0] (out), ENA (in), ENB (in), WEA (in), WEB (in)

## RAMDE_32x32
designator U?
Dual Port RAM, Enable; Memory_DepthA: 32; Memory_Type: RAM_DualPortBlock; Memory_ClockEdge: Rising; Nexus_Core: Memory_Program; Memory_EnablePin: True; Memory_ByteWrites: False; Published: 11/10/2004; Publisher: Altium Hobart Technology Center; Memory_DepthB: 32; Memory_WidthA: 32; Memory_WidthB: 32
pins: ADDRA[4..0] (in), ADDRB[4..0] (in), CLKA (in), CLKB (in), DINA[31..0] (in), DINB[31..0] (in), DOUTA[31..0] (out), DOUTB[31..0] (out), ENA (in), ENB (in), WEA (in), WEB (in)

## RAMDE_32x32K
designator U?
Dual Port RAM, Enable; Memory_DepthA: 32768; Memory_Type: RAM_DualPortBlock; Memory_WidthA: 32; Memory_ClockEdge: Rising; Nexus_Core: Memory_Program; Memory_EnablePin: True; Memory_ByteWrites: False; Published: 11/10/2004; Publisher: Altium Hobart Technology Center; Memory_DepthB: 32768; Memory_WidthB: 32
pins: ADDRA[14..0] (in), ADDRB[14..0] (in), CLKA (in), CLKB (in), DINA[31..0] (in), DINB[31..0] (in), DOUTA[31..0] (out), DOUTB[31..0] (out), ENA (in), ENB (in), WEA (in), WEB (in)

## RAMDE_32x64
designator U?
Dual Port RAM, Enable; Memory_DepthA: 64; Memory_Type: RAM_DualPortBlock; Memory_WidthA: 32; Memory_ClockEdge: Rising; Nexus_Core: Memory_Program; Memory_EnablePin: True; Memory_ByteWrites: False; Published: 11/10/2004; Publisher: Altium Hobart Technology Center; Memory_DepthB: 64; Memory_WidthB: 32
pins: ADDRA[5..0] (in), ADDRB[5..0] (in), CLKA (in), CLKB (in), DINA[31..0] (in), DINB[31..0] (in), DOUTA[31..0] (out), DOUTB[31..0] (out), ENA (in), ENB (in), WEA (in), WEB (in)

## RAMDE_32x64K
designator U?
Dual Port RAM, Enable; Memory_DepthA: 65536; Memory_Type: RAM_DualPortBlock; Memory_WidthA: 32; Memory_ClockEdge: Rising; Nexus_Core: Memory_Program; Memory_EnablePin: True; Memory_ByteWrites: False; Published: 11/10/2004; Publisher: Altium Hobart Technology Center; Memory_DepthB: 65536; Memory_WidthB: 32
pins: ADDRA[15..0] (in), ADDRB[15..0] (in), CLKA (in), CLKB (in), DINA[31..0] (in), DINB[31..0] (in), DOUTA[31..0] (out), DOUTB[31..0] (out), ENA (in), ENB (in), WEA (in), WEB (in)

## RAMDE_32x128
designator U?
Dual Port RAM, Enable; Memory_DepthA: 128; Memory_Type: RAM_DualPortBlock; Memory_WidthA: 32; Memory_ClockEdge: Rising; Nexus_Core: Memory_Program; Memory_EnablePin: True; Memory_ByteWrites: False; Published: 11/10/2004; Publisher: Altium Hobart Technology Center; Memory_DepthB: 128; Memory_WidthB: 32
pins: ADDRA[6..0] (in), ADDRB[6..0] (in), CLKA (in), CLKB (in), DINA[31..0] (in), DINB[31..0] (in), DOUTA[31..0] (out), DOUTB[31..0] (out), ENA (in), ENB (in), WEA (in), WEB (in)

## RAMDE_32x256
designator U?
Dual Port RAM, Enable; Memory_DepthA: 256; Memory_Type: RAM_DualPortBlock; Memory_WidthA: 32; Memory_ClockEdge: Rising; Nexus_Core: Memory_Program; Memory_EnablePin: True; Memory_ByteWrites: False; Published: 11/10/2004; Publisher: Altium Hobart Technology Center; Memory_DepthB: 256; Memory_WidthB: 32
pins: ADDRA[7..0] (in), ADDRB[7..0] (in), CLKA (in), CLKB (in), DINA[31..0] (in), DINB[31..0] (in), DOUTA[31..0] (out), DOUTB[31..0] (out), ENA (in), ENB (in), WEA (in), WEB (in)

## RAMDE_32x512
designator U?
Dual Port RAM, Enable; Memory_DepthA: 512; Memory_Type: RAM_DualPortBlock; Memory_WidthA: 32; Memory_ClockEdge: Rising; Nexus_Core: Memory_Program; Memory_EnablePin: True; Memory_ByteWrites: False; Published: 11/10/2004; Publisher: Altium Hobart Technology Center; Memory_DepthB: 512; Memory_WidthB: 32
pins: ADDRA[8..0] (in), ADDRB[8..0] (in), CLKA (in), CLKB (in), DINA[31..0] (in), DINB[31..0] (in), DOUTA[31..0] (out), DOUTB[31..0] (out), ENA (in), ENB (in), WEA (in), WEB (in)

## RAMDEB_16x1K
designator U?
Dual Port RAM, Enable, Byte Write Enable; Memory_DepthA: 1024; Memory_Type: RAM_DualPortBlock; Memory_WidthA: 16; Memory_ClockEdge: Rising; Nexus_Core: Memory_Program; Memory_EnablePin: True; Published: 11/10/2004; Publisher: Altium Hobart Technology Center; Memory_DepthB: 1024; Memory_WidthB: 16; Memory_ByteWrites: True
pins: ADDRA[9..0] (in), ADDRB[9..0] (in), ByteWEA[1..0] (in), ByteWEB[1..0] (in), CLKA (in), CLKB (in), DINA[15..0] (in), DINB[15..0] (in), DOUTA[15..0] (out), DOUTB[15..0] (out), ENA (in), ENB (in), WEA (in), WEB (in)

## RAMDEB_16x2K
designator U?
Dual Port RAM, Enable, Byte Write Enable; Memory_DepthA: 2048; Memory_Type: RAM_DualPortBlock; Memory_WidthA: 16; Memory_ClockEdge: Rising; Nexus_Core: Memory_Program; Memory_EnablePin: True; Published: 11/10/2004; Publisher: Altium Hobart Technology Center; Memory_DepthB: 2048; Memory_WidthB: 16; Memory_ByteWrites: True
pins: ADDRA[10..0] (in), ADDRB[10..0] (in), ByteWEA[1..0] (in), ByteWEB[1..0] (in), CLKA (in), CLKB (in), DINA[15..0] (in), DINB[15..0] (in), DOUTA[15..0] (out), DOUTB[15..0] (out), ENA (in), ENB (in), WEA (in), WEB (in)

## RAMDEB_16x4
designator U?
Dual Port RAM, Enable, Byte Write Enable; Memory_DepthA: 4; Memory_Type: RAM_DualPortBlock; Memory_WidthA: 16; Memory_ClockEdge: Rising; Nexus_Core: Memory_Program; Memory_EnablePin: True; Published: 11/10/2004; Publisher: Altium Hobart Technology Center; Memory_DepthB: 4; Memory_WidthB: 16; Memory_ByteWrites: True
pins: ADDRA[1..0] (in), ADDRB[1..0] (in), ByteWEA[1..0] (in), ByteWEB[1..0] (in), CLKA (in), CLKB (in), DINA[15..0] (in), DINB[15..0] (in), DOUTA[15..0] (out), DOUTB[15..0] (out), ENA (in), ENB (in), WEA (in), WEB (in)

## RAMDEB_16x4K
designator U?
Dual Port RAM, Enable, Byte Write Enable; Memory_DepthA: 4096; Memory_Type: RAM_DualPortBlock; Memory_WidthA: 16; Memory_ClockEdge: Rising; Nexus_Core: Memory_Program; Memory_EnablePin: True; Published: 11/10/2004; Publisher: Altium Hobart Technology Center; Memory_DepthB: 4096; Memory_WidthB: 16; Memory_ByteWrites: True
pins: ADDRA[11..0] (in), ADDRB[11..0] (in), ByteWEA[1..0] (in), ByteWEB[1..0] (in), CLKA (in), CLKB (in), DINA[15..0] (in), DINB[15..0] (in), DOUTA[15..0] (out), DOUTB[15..0] (out), ENA (in), ENB (in), WEA (in), WEB (in)

## RAMDEB_16x8
designator U?
Dual Port RAM, Enable, Byte Write Enable; Memory_DepthA: 8; Memory_Type: RAM_DualPortBlock; Memory_WidthA: 16; Memory_ClockEdge: Rising; Nexus_Core: Memory_Program; Memory_EnablePin: True; Published: 11/10/2004; Publisher: Altium Hobart Technology Center; Memory_DepthB: 8; Memory_WidthB: 16; Memory_ByteWrites: True
pins: ADDRA[2..0] (in), ADDRB[2..0] (in), ByteWEA[1..0] (in), ByteWEB[1..0] (in), CLKA (in), CLKB (in), DINA[15..0] (in), DINB[15..0] (in), DOUTA[15..0] (out), DOUTB[15..0] (out), ENA (in), ENB (in), WEA (in), WEB (in)

## RAMDEB_16x8K
designator U?
Dual Port RAM, Enable, Byte Write Enable; Memory_DepthA: 8192; Memory_Type: RAM_DualPortBlock; Memory_WidthA: 16; Memory_ClockEdge: Rising; Nexus_Core: Memory_Program; Memory_EnablePin: True; Published: 11/10/2004; Publisher: Altium Hobart Technology Center; Memory_DepthB: 8192; Memory_WidthB: 16; Memory_ByteWrites: True
pins: ADDRA[12..0] (in), ADDRB[12..0] (in), ByteWEA[1..0] (in), ByteWEB[1..0] (in), CLKA (in), CLKB (in), DINA[15..0] (in), DINB[15..0] (in), DOUTA[15..0] (out), DOUTB[15..0] (out), ENA (in), ENB (in), WEA (in), WEB (in)

## RAMDEB_16x16
designator U?
Dual Port RAM, Enable, Byte Write Enable; Memory_DepthA: 16; Memory_Type: RAM_DualPortBlock; Memory_ClockEdge: Rising; Nexus_Core: Memory_Program; Memory_EnablePin: True; Published: 11/10/2004; Publisher: Altium Hobart Technology Center; Memory_DepthB: 16; Memory_WidthA: 16; Memory_WidthB: 16; Memory_ByteWrites: True
pins: ADDRA[3..0] (in), ADDRB[3..0] (in), ByteWEA[1..0] (in), ByteWEB[1..0] (in), CLKA (in), CLKB (in), DINA[15..0] (in), DINB[15..0] (in), DOUTA[15..0] (out), DOUTB[15..0] (out), ENA (in), ENB (in), WEA (in), WEB (in)

## RAMDEB_16x16K
designator U?
Dual Port RAM, Enable, Byte Write Enable; Memory_DepthA: 16384; Memory_Type: RAM_DualPortBlock; Memory_WidthA: 16; Memory_ClockEdge: Rising; Nexus_Core: Memory_Program; Memory_EnablePin: True; Published: 11/10/2004; Publisher: Altium Hobart Technology Center; Memory_DepthB: 16384; Memory_WidthB: 16; Memory_ByteWrites: True
pins: ADDRA[13..0] (in), ADDRB[13..0] (in), ByteWEA[1..0] (in), ByteWEB[1..0] (in), CLKA (in), CLKB (in), DINA[15..0] (in), DINB[15..0] (in), DOUTA[15..0] (out), DOUTB[15..0] (out), ENA (in), ENB (in), WEA (in), WEB (in)

## RAMDEB_16x32
designator U?
Dual Port RAM, Enable, Byte Write Enable; Memory_DepthA: 32; Memory_Type: RAM_DualPortBlock; Memory_WidthA: 16; Memory_ClockEdge: Rising; Nexus_Core: Memory_Program; Memory_EnablePin: True; Published: 11/10/2004; Publisher: Altium Hobart Technology Center; Memory_DepthB: 32; Memory_WidthB: 16; Memory_ByteWrites: True
pins: ADDRA[4..0] (in), ADDRB[4..0] (in), ByteWEA[1..0] (in), ByteWEB[1..0] (in), CLKA (in), CLKB (in), DINA[15..0] (in), DINB[15..0] (in), DOUTA[15..0] (out), DOUTB[15..0] (out), ENA (in), ENB (in), WEA (in), WEB (in)

## RAMDEB_16x32K
designator U?
Dual Port RAM, Enable, Byte Write Enable; Memory_DepthA: 32768; Memory_Type: RAM_DualPortBlock; Memory_WidthA: 16; Memory_ClockEdge: Rising; Nexus_Core: Memory_Program; Memory_EnablePin: True; Published: 11/10/2004; Publisher: Altium Hobart Technology Center; Memory_DepthB: 32768; Memory_WidthB: 16; Memory_ByteWrites: True
pins: ADDRA[14..0] (in), ADDRB[14..0] (in), ByteWEA[1..0] (in), ByteWEB[1..0] (in), CLKA (in), CLKB (in), DINA[15..0] (in), DINB[15..0] (in), DOUTA[15..0] (out), DOUTB[15..0] (out), ENA (in), ENB (in), WEA (in), WEB (in)

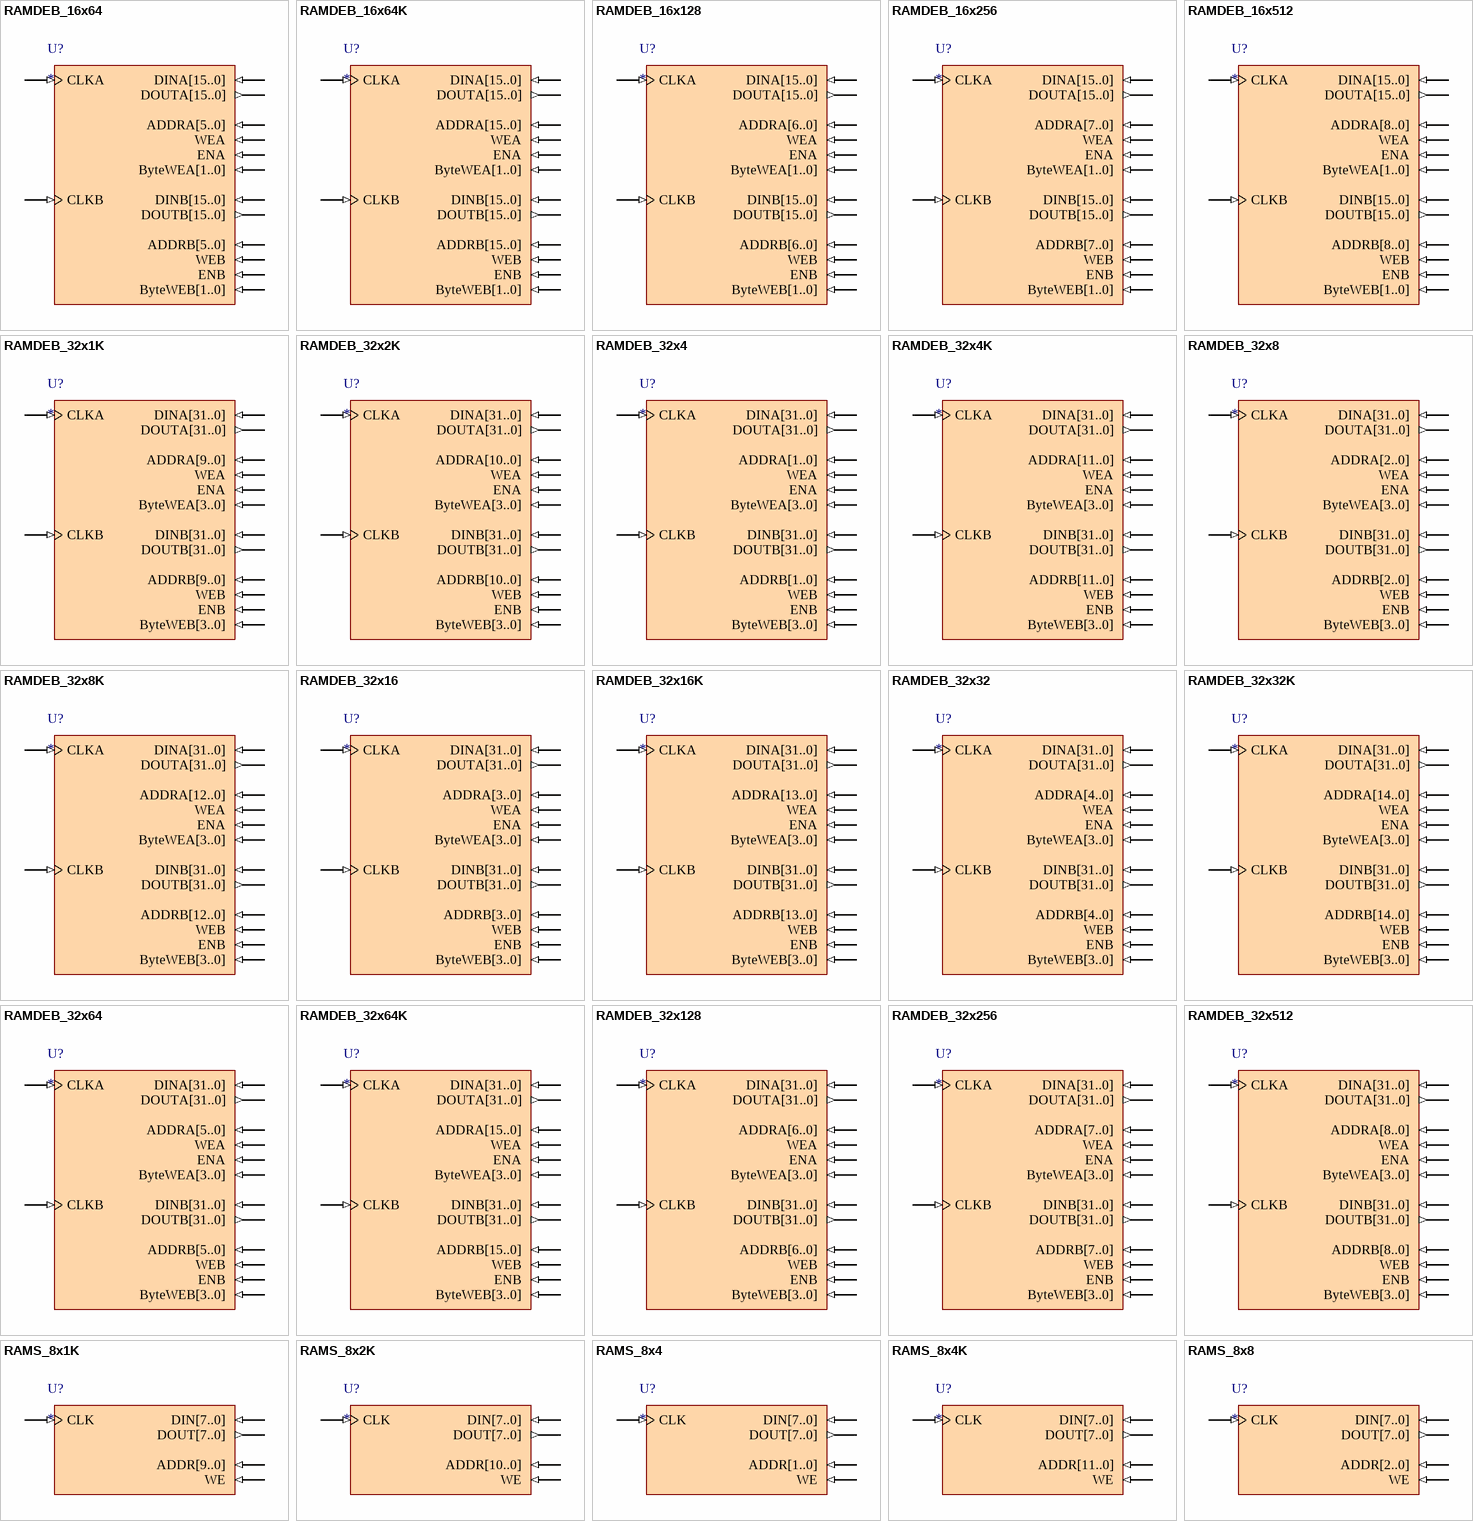
[diagram p7: symbols RAMDEB_16x64 to RAMS_8x8]

## RAMDEB_16x64
designator U?
Dual Port RAM, Enable, Byte Write Enable; Memory_DepthA: 64; Memory_Type: RAM_DualPortBlock; Memory_WidthA: 16; Memory_ClockEdge: Rising; Nexus_Core: Memory_Program; Memory_EnablePin: True; Published: 11/10/2004; Publisher: Altium Hobart Technology Center; Memory_DepthB: 64; Memory_WidthB: 16; Memory_ByteWrites: True
pins: ADDRA[5..0] (in), ADDRB[5..0] (in), ByteWEA[1..0] (in), ByteWEB[1..0] (in), CLKA (in), CLKB (in), DINA[15..0] (in), DINB[15..0] (in), DOUTA[15..0] (out), DOUTB[15..0] (out), ENA (in), ENB (in), WEA (in), WEB (in)

## RAMDEB_16x64K
designator U?
Dual Port RAM, Enable, Byte Write Enable; Memory_DepthA: 65536; Memory_Type: RAM_DualPortBlock; Memory_WidthA: 16; Memory_ClockEdge: Rising; Nexus_Core: Memory_Program; Memory_EnablePin: True; Published: 11/10/2004; Publisher: Altium Hobart Technology Center; Memory_DepthB: 65536; Memory_WidthB: 16; Memory_ByteWrites: True
pins: ADDRA[15..0] (in), ADDRB[15..0] (in), ByteWEA[1..0] (in), ByteWEB[1..0] (in), CLKA (in), CLKB (in), DINA[15..0] (in), DINB[15..0] (in), DOUTA[15..0] (out), DOUTB[15..0] (out), ENA (in), ENB (in), WEA (in), WEB (in)

## RAMDEB_16x128
designator U?
Dual Port RAM, Enable, Byte Write Enable; Memory_DepthA: 128; Memory_Type: RAM_DualPortBlock; Memory_WidthA: 16; Memory_ClockEdge: Rising; Nexus_Core: Memory_Program; Memory_EnablePin: True; Published: 11/10/2004; Publisher: Altium Hobart Technology Center; Memory_DepthB: 128; Memory_WidthB: 16; Memory_ByteWrites: True
pins: ADDRA[6..0] (in), ADDRB[6..0] (in), ByteWEA[1..0] (in), ByteWEB[1..0] (in), CLKA (in), CLKB (in), DINA[15..0] (in), DINB[15..0] (in), DOUTA[15..0] (out), DOUTB[15..0] (out), ENA (in), ENB (in), WEA (in), WEB (in)

## RAMDEB_16x256
designator U?
Dual Port RAM, Enable, Byte Write Enable; Memory_DepthA: 256; Memory_Type: RAM_DualPortBlock; Memory_WidthA: 16; Memory_ClockEdge: Rising; Nexus_Core: Memory_Program; Memory_EnablePin: True; Published: 11/10/2004; Publisher: Altium Hobart Technology Center; Memory_DepthB: 256; Memory_WidthB: 16; Memory_ByteWrites: True
pins: ADDRA[7..0] (in), ADDRB[7..0] (in), ByteWEA[1..0] (in), ByteWEB[1..0] (in), CLKA (in), CLKB (in), DINA[15..0] (in), DINB[15..0] (in), DOUTA[15..0] (out), DOUTB[15..0] (out), ENA (in), ENB (in), WEA (in), WEB (in)

## RAMDEB_16x512
designator U?
Dual Port RAM, Enable, Byte Write Enable; Memory_DepthA: 512; Memory_Type: RAM_DualPortBlock; Memory_WidthA: 16; Memory_ClockEdge: Rising; Nexus_Core: Memory_Program; Memory_EnablePin: True; Published: 11/10/2004; Publisher: Altium Hobart Technology Center; Memory_DepthB: 512; Memory_WidthB: 16; Memory_ByteWrites: True
pins: ADDRA[8..0] (in), ADDRB[8..0] (in), ByteWEA[1..0] (in), ByteWEB[1..0] (in), CLKA (in), CLKB (in), DINA[15..0] (in), DINB[15..0] (in), DOUTA[15..0] (out), DOUTB[15..0] (out), ENA (in), ENB (in), WEA (in), WEB (in)

## RAMDEB_32x1K
designator U?
Dual Port RAM, Enable, Byte Write Enable; Memory_DepthA: 1024; Memory_Type: RAM_DualPortBlock; Memory_WidthA: 32; Memory_ClockEdge: Rising; Nexus_Core: Memory_Program; Memory_EnablePin: True; Published: 11/10/2004; Publisher: Altium Hobart Technology Center; Memory_DepthB: 1024; Memory_WidthB: 32; Memory_ByteWrites: True
pins: ADDRA[9..0] (in), ADDRB[9..0] (in), ByteWEA[3..0] (in), ByteWEB[3..0] (in), CLKA (in), CLKB (in), DINA[31..0] (in), DINB[31..0] (in), DOUTA[31..0] (out), DOUTB[31..0] (out), ENA (in), ENB (in), WEA (in), WEB (in)

## RAMDEB_32x2K
designator U?
Dual Port RAM, Enable, Byte Write Enable; Memory_DepthA: 2048; Memory_Type: RAM_DualPortBlock; Memory_WidthA: 32; Memory_ClockEdge: Rising; Nexus_Core: Memory_Program; Memory_EnablePin: True; Published: 11/10/2004; Publisher: Altium Hobart Technology Center; Memory_DepthB: 2048; Memory_WidthB: 32; Memory_ByteWrites: True
pins: ADDRA[10..0] (in), ADDRB[10..0] (in), ByteWEA[3..0] (in), ByteWEB[3..0] (in), CLKA (in), CLKB (in), DINA[31..0] (in), DINB[31..0] (in), DOUTA[31..0] (out), DOUTB[31..0] (out), ENA (in), ENB (in), WEA (in), WEB (in)

## RAMDEB_32x4
designator U?
Dual Port RAM, Enable, Byte Write Enable; Memory_DepthA: 4; Memory_Type: RAM_DualPortBlock; Memory_WidthA: 32; Memory_ClockEdge: Rising; Nexus_Core: Memory_Program; Memory_EnablePin: True; Published: 11/10/2004; Publisher: Altium Hobart Technology Center; Memory_DepthB: 4; Memory_WidthB: 32; Memory_ByteWrites: True
pins: ADDRA[1..0] (in), ADDRB[1..0] (in), ByteWEA[3..0] (in), ByteWEB[3..0] (in), CLKA (in), CLKB (in), DINA[31..0] (in), DINB[31..0] (in), DOUTA[31..0] (out), DOUTB[31..0] (out), ENA (in), ENB (in), WEA (in), WEB (in)

## RAMDEB_32x4K
designator U?
Dual Port RAM, Enable, Byte Write Enable; Memory_DepthA: 4096; Memory_Type: RAM_DualPortBlock; Memory_WidthA: 32; Memory_ClockEdge: Rising; Nexus_Core: Memory_Program; Memory_EnablePin: True; Published: 11/10/2004; Publisher: Altium Hobart Technology Center; Memory_DepthB: 4096; Memory_WidthB: 32; Memory_ByteWrites: True
pins: ADDRA[11..0] (in), ADDRB[11..0] (in), ByteWEA[3..0] (in), ByteWEB[3..0] (in), CLKA (in), CLKB (in), DINA[31..0] (in), DINB[31..0] (in), DOUTA[31..0] (out), DOUTB[31..0] (out), ENA (in), ENB (in), WEA (in), WEB (in)

## RAMDEB_32x8
designator U?
Dual Port RAM, Enable, Byte Write Enable; Memory_DepthA: 8; Memory_Type: RAM_DualPortBlock; Memory_WidthA: 32; Memory_ClockEdge: Rising; Nexus_Core: Memory_Program; Memory_EnablePin: True; Published: 11/10/2004; Publisher: Altium Hobart Technology Center; Memory_DepthB: 8; Memory_WidthB: 32; Memory_ByteWrites: True
pins: ADDRA[2..0] (in), ADDRB[2..0] (in), ByteWEA[3..0] (in), ByteWEB[3..0] (in), CLKA (in), CLKB (in), DINA[31..0] (in), DINB[31..0] (in), DOUTA[31..0] (out), DOUTB[31..0] (out), ENA (in), ENB (in), WEA (in), WEB (in)

## RAMDEB_32x8K
designator U?
Dual Port RAM, Enable, Byte Write Enable; Memory_DepthA: 8192; Memory_Type: RAM_DualPortBlock; Memory_WidthA: 32; Memory_ClockEdge: Rising; Nexus_Core: Memory_Program; Memory_EnablePin: True; Published: 11/10/2004; Publisher: Altium Hobart Technology Center; Memory_DepthB: 8192; Memory_WidthB: 32; Memory_ByteWrites: True
pins: ADDRA[12..0] (in), ADDRB[12..0] (in), ByteWEA[3..0] (in), ByteWEB[3..0] (in), CLKA (in), CLKB (in), DINA[31..0] (in), DINB[31..0] (in), DOUTA[31..0] (out), DOUTB[31..0] (out), ENA (in), ENB (in), WEA (in), WEB (in)

## RAMDEB_32x16
designator U?
Dual Port RAM, Enable, Byte Write Enable; Memory_DepthA: 16; Memory_Type: RAM_DualPortBlock; Memory_WidthA: 32; Memory_ClockEdge: Rising; Nexus_Core: Memory_Program; Memory_EnablePin: True; Published: 11/10/2004; Publisher: Altium Hobart Technology Center; Memory_DepthB: 16; Memory_WidthB: 32; Memory_ByteWrites: True
pins: ADDRA[3..0] (in), ADDRB[3..0] (in), ByteWEA[3..0] (in), ByteWEB[3..0] (in), CLKA (in), CLKB (in), DINA[31..0] (in), DINB[31..0] (in), DOUTA[31..0] (out), DOUTB[31..0] (out), ENA (in), ENB (in), WEA (in), WEB (in)

## RAMDEB_32x16K
designator U?
Dual Port RAM, Enable, Byte Write Enable; Memory_DepthA: 16384; Memory_Type: RAM_DualPortBlock; Memory_WidthA: 32; Memory_ClockEdge: Rising; Nexus_Core: Memory_Program; Memory_EnablePin: True; Published: 11/10/2004; Publisher: Altium Hobart Technology Center; Memory_DepthB: 16384; Memory_WidthB: 32; Memory_ByteWrites: True
pins: ADDRA[13..0] (in), ADDRB[13..0] (in), ByteWEA[3..0] (in), ByteWEB[3..0] (in), CLKA (in), CLKB (in), DINA[31..0] (in), DINB[31..0] (in), DOUTA[31..0] (out), DOUTB[31..0] (out), ENA (in), ENB (in), WEA (in), WEB (in)

## RAMDEB_32x32
designator U?
Dual Port RAM, Enable, Byte Write Enable; Memory_DepthA: 32; Memory_Type: RAM_DualPortBlock; Memory_ClockEdge: Rising; Nexus_Core: Memory_Program; Memory_EnablePin: True; Published: 11/10/2004; Publisher: Altium Hobart Technology Center; Memory_DepthB: 32; Memory_WidthA: 32; Memory_WidthB: 32; Memory_ByteWrites: True
pins: ADDRA[4..0] (in), ADDRB[4..0] (in), ByteWEA[3..0] (in), ByteWEB[3..0] (in), CLKA (in), CLKB (in), DINA[31..0] (in), DINB[31..0] (in), DOUTA[31..0] (out), DOUTB[31..0] (out), ENA (in), ENB (in), WEA (in), WEB (in)

## RAMDEB_32x32K
designator U?
Dual Port RAM, Enable, Byte Write Enable; Memory_DepthA: 32768; Memory_Type: RAM_DualPortBlock; Memory_WidthA: 32; Memory_ClockEdge: Rising; Nexus_Core: Memory_Program; Memory_EnablePin: True; Published: 11/10/2004; Publisher: Altium Hobart Technology Center; Memory_DepthB: 32768; Memory_WidthB: 32; Memory_ByteWrites: True
pins: ADDRA[14..0] (in), ADDRB[14..0] (in), ByteWEA[3..0] (in), ByteWEB[3..0] (in), CLKA (in), CLKB (in), DINA[31..0] (in), DINB[31..0] (in), DOUTA[31..0] (out), DOUTB[31..0] (out), ENA (in), ENB (in), WEA (in), WEB (in)

## RAMDEB_32x64
designator U?
Dual Port RAM, Enable, Byte Write Enable; Memory_DepthA: 64; Memory_Type: RAM_DualPortBlock; Memory_WidthA: 32; Memory_ClockEdge: Rising; Nexus_Core: Memory_Program; Memory_EnablePin: True; Published: 11/10/2004; Publisher: Altium Hobart Technology Center; Memory_DepthB: 64; Memory_WidthB: 32; Memory_ByteWrites: True
pins: ADDRA[5..0] (in), ADDRB[5..0] (in), ByteWEA[3..0] (in), ByteWEB[3..0] (in), CLKA (in), CLKB (in), DINA[31..0] (in), DINB[31..0] (in), DOUTA[31..0] (out), DOUTB[31..0] (out), ENA (in), ENB (in), WEA (in), WEB (in)

## RAMDEB_32x64K
designator U?
Dual Port RAM, Enable, Byte Write Enable; Memory_DepthA: 65536; Memory_Type: RAM_DualPortBlock; Memory_WidthA: 32; Memory_ClockEdge: Rising; Nexus_Core: Memory_Program; Memory_EnablePin: True; Published: 11/10/2004; Publisher: Altium Hobart Technology Center; Memory_DepthB: 65536; Memory_WidthB: 32; Memory_ByteWrites: True
pins: ADDRA[15..0] (in), ADDRB[15..0] (in), ByteWEA[3..0] (in), ByteWEB[3..0] (in), CLKA (in), CLKB (in), DINA[31..0] (in), DINB[31..0] (in), DOUTA[31..0] (out), DOUTB[31..0] (out), ENA (in), ENB (in), WEA (in), WEB (in)

## RAMDEB_32x128
designator U?
Dual Port RAM, Enable, Byte Write Enable; Memory_DepthA: 128; Memory_Type: RAM_DualPortBlock; Memory_WidthA: 32; Memory_ClockEdge: Rising; Nexus_Core: Memory_Program; Memory_EnablePin: True; Published: 11/10/2004; Publisher: Altium Hobart Technology Center; Memory_DepthB: 128; Memory_WidthB: 32; Memory_ByteWrites: True
pins: ADDRA[6..0] (in), ADDRB[6..0] (in), ByteWEA[3..0] (in), ByteWEB[3..0] (in), CLKA (in), CLKB (in), DINA[31..0] (in), DINB[31..0] (in), DOUTA[31..0] (out), DOUTB[31..0] (out), ENA (in), ENB (in), WEA (in), WEB (in)

## RAMDEB_32x256
designator U?
Dual Port RAM, Enable, Byte Write Enable; Memory_DepthA: 256; Memory_Type: RAM_DualPortBlock; Memory_WidthA: 32; Memory_ClockEdge: Rising; Nexus_Core: Memory_Program; Memory_EnablePin: True; Published: 11/10/2004; Publisher: Altium Hobart Technology Center; Memory_DepthB: 256; Memory_WidthB: 32; Memory_ByteWrites: True
pins: ADDRA[7..0] (in), ADDRB[7..0] (in), ByteWEA[3..0] (in), ByteWEB[3..0] (in), CLKA (in), CLKB (in), DINA[31..0] (in), DINB[31..0] (in), DOUTA[31..0] (out), DOUTB[31..0] (out), ENA (in), ENB (in), WEA (in), WEB (in)

## RAMDEB_32x512
designator U?
Dual Port RAM, Enable, Byte Write Enable; Memory_DepthA: 512; Memory_Type: RAM_DualPortBlock; Memory_WidthA: 32; Memory_ClockEdge: Rising; Nexus_Core: Memory_Program; Memory_EnablePin: True; Published: 11/10/2004; Publisher: Altium Hobart Technology Center; Memory_DepthB: 512; Memory_WidthB: 32; Memory_ByteWrites: True
pins: ADDRA[8..0] (in), ADDRB[8..0] (in), ByteWEA[3..0] (in), ByteWEB[3..0] (in), CLKA (in), CLKB (in), DINA[31..0] (in), DINB[31..0] (in), DOUTA[31..0] (out), DOUTB[31..0] (out), ENA (in), ENB (in), WEA (in), WEB (in)

## RAMS_8x1K
designator U?
Single Port RAM; Memory_Depth: 1024; Memory_Type: RAM_SinglePortBlock; Memory_Width: 8; Memory_ClockEdge: Rising; Nexus_Core: Memory_Program; Memory_EnablePin: False; Published: 11/10/2004; Publisher: Altium Hobart Technology Center; Memory_ByteWrites: False
pins: ADDR[9..0] (in), CLK (in), DIN[7..0] (in), DOUT[7..0] (out), WE (in)

## RAMS_8x2K
designator U?
Single Port RAM; Memory_Depth: 2048; Memory_Type: RAM_SinglePortBlock; Memory_Width: 8; Memory_ClockEdge: Rising; Nexus_Core: Memory_Program; Memory_EnablePin: False; Published: 11/10/2004; Publisher: Altium Hobart Technology Center; Memory_ByteWrites: False
pins: ADDR[10..0] (in), CLK (in), DIN[7..0] (in), DOUT[7..0] (out), WE (in)

## RAMS_8x4
designator U?
Single Port RAM; Memory_Depth: 4; Memory_Type: RAM_SinglePortBlock; Memory_Width: 8; Memory_ClockEdge: Rising; Nexus_Core: Memory_Program; Memory_EnablePin: False; Published: 11/10/2004; Publisher: Altium Hobart Technology Center; Memory_ByteWrites: False
pins: ADDR[1..0] (in), CLK (in), DIN[7..0] (in), DOUT[7..0] (out), WE (in)

## RAMS_8x4K
designator U?
Single Port RAM; Memory_Depth: 4096; Memory_Type: RAM_SinglePortBlock; Memory_Width: 8; Memory_ClockEdge: Rising; Nexus_Core: Memory_Program; Memory_EnablePin: False; Published: 11/10/2004; Publisher: Altium Hobart Technology Center; Memory_ByteWrites: False
pins: ADDR[11..0] (in), CLK (in), DIN[7..0] (in), DOUT[7..0] (out), WE (in)

## RAMS_8x8
designator U?
Single Port RAM; Memory_Depth: 8; Memory_Type: RAM_SinglePortBlock; Memory_ClockEdge: Rising; Nexus_Core: Memory_Program; Memory_EnablePin: False; Published: 11/10/2004; Publisher: Altium Hobart Technology Center; Memory_Width: 8; Memory_ByteWrites: False
pins: ADDR[2..0] (in), CLK (in), DIN[7..0] (in), DOUT[7..0] (out), WE (in)

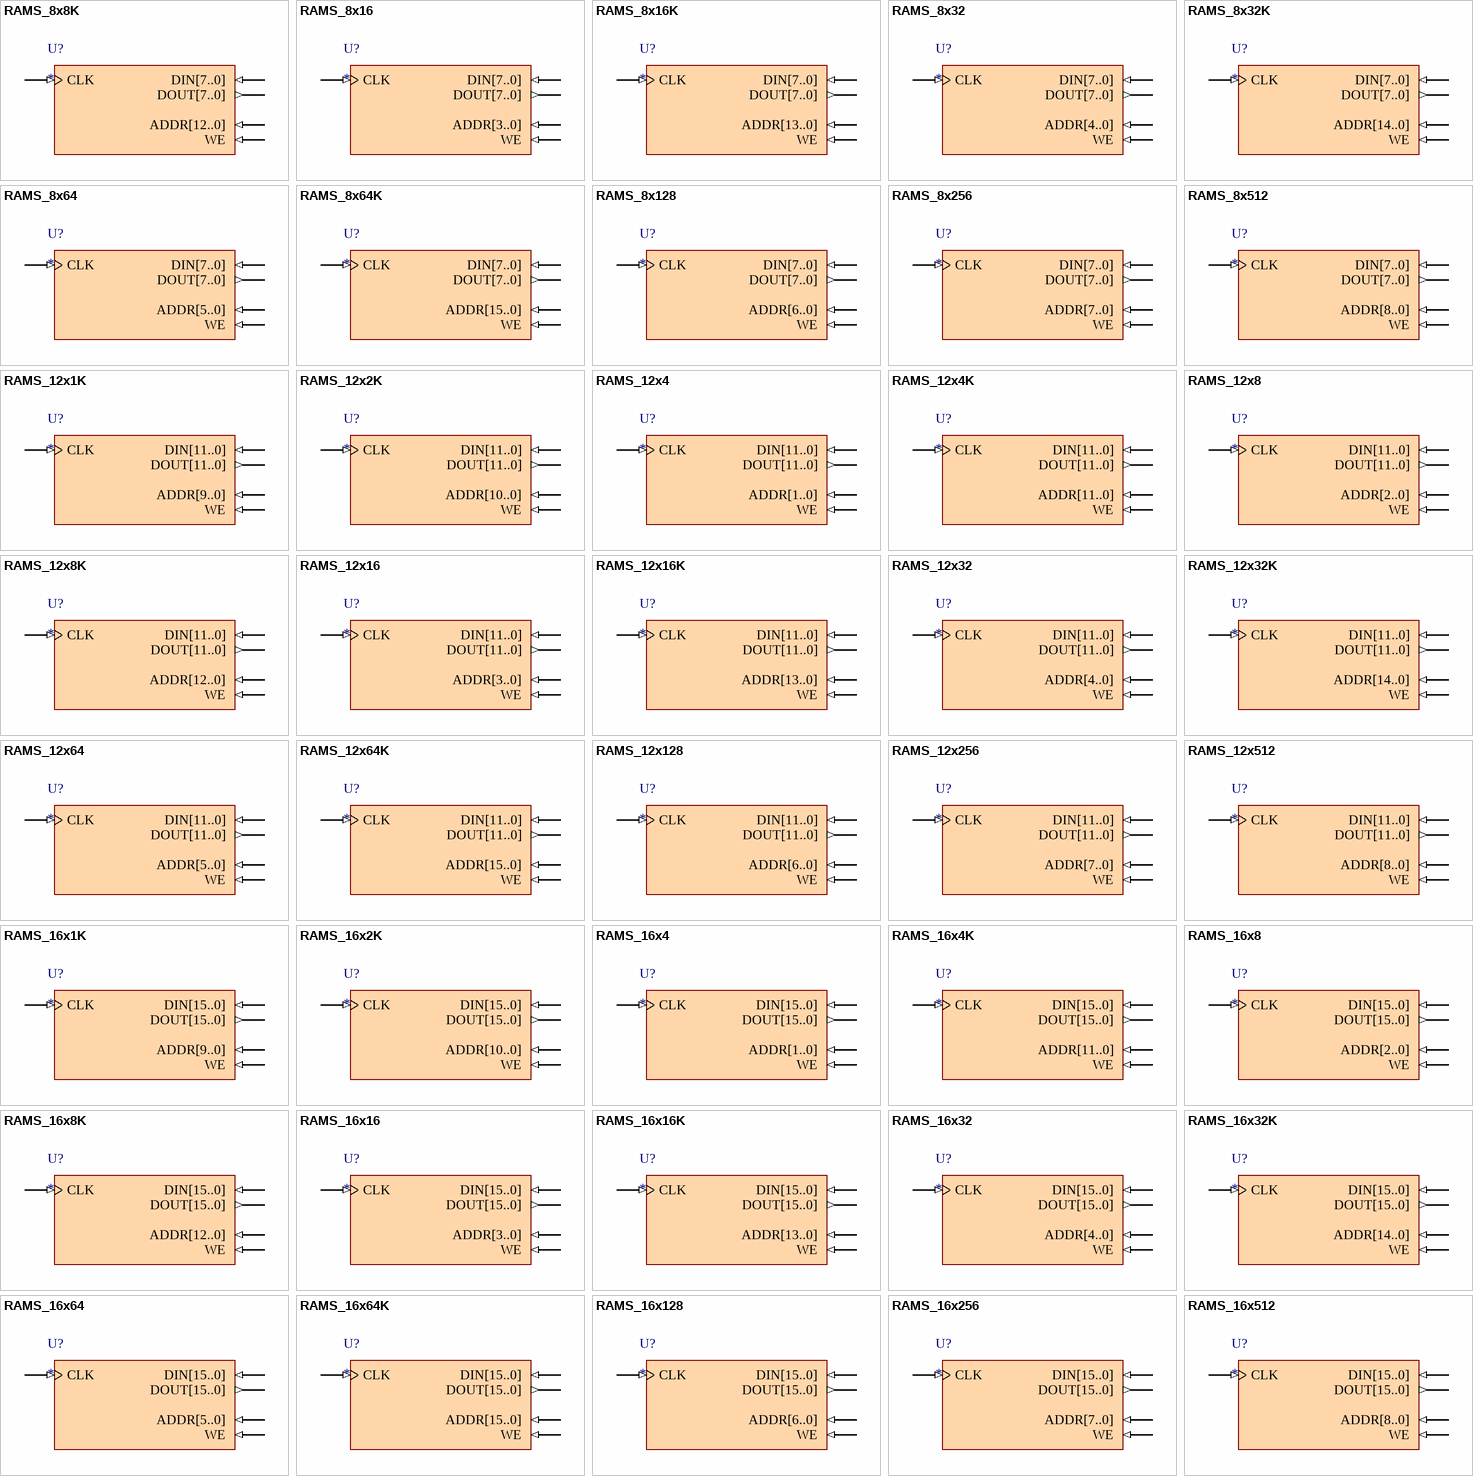
[diagram p8: symbols RAMS_8x8K to RAMS_16x512]

## RAMS_8x8K
designator U?
Single Port RAM; Memory_Depth: 8192; Memory_Type: RAM_SinglePortBlock; Memory_Width: 8; Memory_ClockEdge: Rising; Nexus_Core: Memory_Program; Memory_EnablePin: False; Published: 11/10/2004; Publisher: Altium Hobart Technology Center; Memory_ByteWrites: False
pins: ADDR[12..0] (in), CLK (in), DIN[7..0] (in), DOUT[7..0] (out), WE (in)

## RAMS_8x16
designator U?
Single Port RAM; Memory_Depth: 16; Memory_Type: RAM_SinglePortBlock; Memory_Width: 8; Memory_ClockEdge: Rising; Nexus_Core: Memory_Program; Memory_EnablePin: False; Published: 11/10/2004; Publisher: Altium Hobart Technology Center; Memory_ByteWrites: False
pins: ADDR[3..0] (in), CLK (in), DIN[7..0] (in), DOUT[7..0] (out), WE (in)

## RAMS_8x16K
designator U?
Single Port RAM; Memory_Depth: 16384; Memory_Type: RAM_SinglePortBlock; Memory_Width: 8; Memory_ClockEdge: Rising; Nexus_Core: Memory_Program; Memory_EnablePin: False; Published: 11/10/2004; Publisher: Altium Hobart Technology Center; Memory_ByteWrites: False
pins: ADDR[13..0] (in), CLK (in), DIN[7..0] (in), DOUT[7..0] (out), WE (in)

## RAMS_8x32
designator U?
Single Port RAM; Memory_Depth: 32; Memory_Type: RAM_SinglePortBlock; Memory_Width: 8; Memory_ClockEdge: Rising; Nexus_Core: Memory_Program; Memory_EnablePin: False; Published: 11/10/2004; Publisher: Altium Hobart Technology Center; Memory_ByteWrites: False
pins: ADDR[4..0] (in), CLK (in), DIN[7..0] (in), DOUT[7..0] (out), WE (in)

## RAMS_8x32K
designator U?
Single Port RAM; Memory_Depth: 32768; Memory_Type: RAM_SinglePortBlock; Memory_Width: 8; Memory_ClockEdge: Rising; Nexus_Core: Memory_Program; Memory_EnablePin: False; Published: 11/10/2004; Publisher: Altium Hobart Technology Center; Memory_ByteWrites: False
pins: ADDR[14..0] (in), CLK (in), DIN[7..0] (in), DOUT[7..0] (out), WE (in)

## RAMS_8x64
designator U?
Single Port RAM; Memory_Depth: 64; Memory_Type: RAM_SinglePortBlock; Memory_Width: 8; Memory_ClockEdge: Rising; Nexus_Core: Memory_Program; Memory_EnablePin: False; Published: 11/10/2004; Publisher: Altium Hobart Technology Center; Memory_ByteWrites: False
pins: ADDR[5..0] (in), CLK (in), DIN[7..0] (in), DOUT[7..0] (out), WE (in)

## RAMS_8x64K
designator U?
Single Port RAM; Memory_Depth: 65536; Memory_Type: RAM_SinglePortBlock; Memory_Width: 8; Memory_ClockEdge: Rising; Nexus_Core: Memory_Program; Memory_EnablePin: False; Published: 11/10/2004; Publisher: Altium Hobart Technology Center; Memory_ByteWrites: False
pins: ADDR[15..0] (in), CLK (in), DIN[7..0] (in), DOUT[7..0] (out), WE (in)

## RAMS_8x128
designator U?
Single Port RAM; Memory_Depth: 128; Memory_Type: RAM_SinglePortBlock; Memory_Width: 8; Memory_ClockEdge: Rising; Nexus_Core: Memory_Program; Memory_EnablePin: False; Published: 11/10/2004; Publisher: Altium Hobart Technology Center; Memory_ByteWrites: False
pins: ADDR[6..0] (in), CLK (in), DIN[7..0] (in), DOUT[7..0] (out), WE (in)

## RAMS_8x256
designator U?
Single Port RAM; Memory_Depth: 256; Memory_Type: RAM_SinglePortBlock; Memory_Width: 8; Memory_ClockEdge: Rising; Nexus_Core: Memory_Program; Memory_EnablePin: False; Published: 11/10/2004; Publisher: Altium Hobart Technology Center; Memory_ByteWrites: False
pins: ADDR[7..0] (in), CLK (in), DIN[7..0] (in), DOUT[7..0] (out), WE (in)

## RAMS_8x512
designator U?
Single Port RAM; Memory_Depth: 512; Memory_Type: RAM_SinglePortBlock; Memory_Width: 8; Memory_ClockEdge: Rising; Nexus_Core: Memory_Program; Memory_EnablePin: False; Published: 11/10/2004; Publisher: Altium Hobart Technology Center; Memory_ByteWrites: False
pins: ADDR[8..0] (in), CLK (in), DIN[7..0] (in), DOUT[7..0] (out), WE (in)

## RAMS_12x1K
designator U?
Single Port RAM; Memory_Depth: 1024; Memory_Type: RAM_SinglePortBlock; Memory_Width: 12; Memory_ClockEdge: Rising; Nexus_Core: Memory_Program; Memory_EnablePin: False; Published: 11/10/2004; Publisher: Altium Hobart Technology Center; Memory_ByteWrites: False
pins: ADDR[9..0] (in), CLK (in), DIN[11..0] (in), DOUT[11..0] (out), WE (in)